# Altium integrated library SMD-DIODE-SWITCHING-75V-150MA_D1206_.IntLib: 1 symbol
Pins are listed as number, name and electrical type; pins without a type are passive.

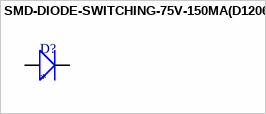
[diagram p0: symbol SMD-DIODE-SWITCHING-75V-150MA(D1206)]

## SMD-DIODE-SWITCHING-75V-150MA(D1206)
designator D?
CD1206-S01575, SMT Switching Diode, Vr=75V 150mA, 4ns, 2-Pin 1206 | Bourns CD1206-S01575; SnapEDA_Link: https://www.snapeda.com/parts/CD1206-S01575/Bourns/view-part/?ref=snap; Package: 1206 Bourns; Value: *; MF: Bourns; MP: CD1206-S01575; Check_prices: https://www.snapeda.com/parts/CD1206-S01575/Bourns/view-part/?ref=eda
footprint LED-1206
pins: NEG, POS